# Altium footprint library Package_TO_SOT_THT.PcbLib: 236 footprints (part 11 of 15)
Each footprint in its own frame and in the unit in brackets; x right, y up, seen from the top. Pads: shape width x height; smd on the part's side, far side on the other; paste and mask are expansions set on the pad; w line width, h text height; cw(c..) or ccw(c..) is an arc to the next point about the centre after c.
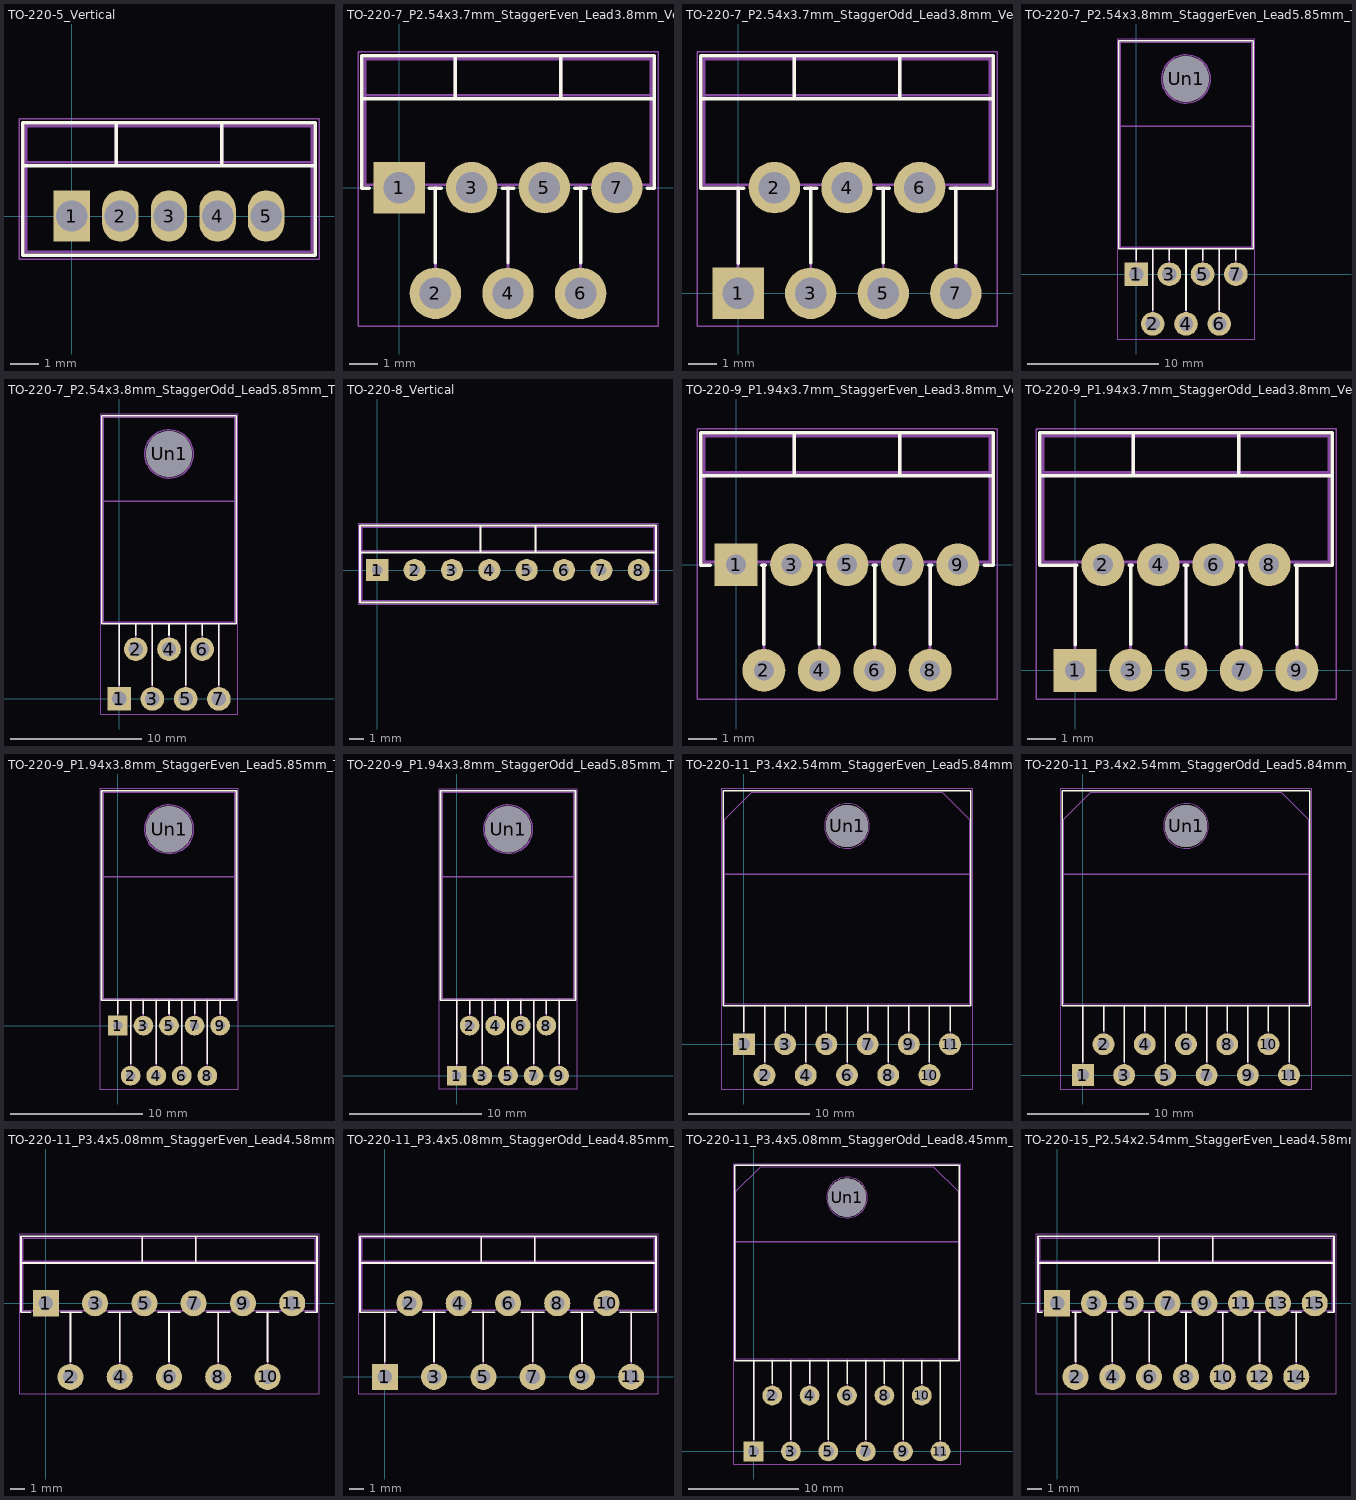
[diagram p10: the footprints below, top view; thin cyan lines are the x and y axes]

## TO-220-5_Vertical [mm]
pads (5):
  rect 1.275x1.8 hole 1.1: 1(0,0)
  rrect100% 1.275x1.8 hole 1.1: 2(1.7,0) 3(3.4,0) 4(5.1,0) 5(6.8,0)
F.SilkS:
  lines w0.12: -1.721,1.76 8.52,1.76 ; 1.55,1.76 1.55,3.27 ; 5.25,1.76 5.25,3.27 ; -1.721,-1.371 8.52,-1.371 8.52,3.27 -1.721,3.27 -1.721,-1.371
F.CrtYd:
  lines w0.05: -1.85,-1.51 8.65,-1.51 8.65,3.4 -1.85,3.4 -1.85,-1.51
F.Fab:
  lines w0.1: -1.6,1.88 8.4,1.88 ; 1.55,1.88 1.55,3.15 ; 5.25,1.88 5.25,3.15 ; -1.6,-1.25 8.4,-1.25 8.4,3.15 -1.6,3.15 -1.6,-1.25
  text "'.Designator'" at -0.647,3.43 h1

## TO-220-7_P2.54x3.7mm_StaggerEven_Lead3.8mm_Vertical [mm]
pads (7):
  rect 1.8x1.8 hole 1.1: 1(0,0)
  rrect100% 1.8x1.8 hole 1.1: 2(1.27,-3.7) 3(2.54,0) 4(3.81,-3.7) 5(5.08,0) 6(6.35,-3.7) 7(7.62,0)
F.SilkS:
  lines w0.12: -1.31,3.111 8.93,3.111 ; -1.05,-0.021 -1.31,-0.021 -1.31,4.62 8.93,4.62 8.93,-0.021 8.685,-0.021 ; 1.05,-0.021 1.475,-0.021 ; 1.27,-2.635 1.27,-0.021 ; 1.96,3.111 1.96,4.62 ; 3.605,-0.021 4.016,-0.021 ; 3.81,-2.635 3.81,-0.021 ; 5.66,3.111 5.66,4.62 ; 6.145,-0.021 6.555,-0.021 ; 6.35,-2.635 6.35,-0.021
F.CrtYd:
  lines w0.05: -1.44,-4.85 9.06,-4.85 9.06,4.75 -1.44,4.75 -1.44,-4.85
F.Fab:
  lines w0.1: -1.19,3.23 8.81,3.23 ; 0,0 0,0.1 ; 1.27,-3.7 1.27,0.1 ; 1.96,3.23 1.96,4.5 ; 2.54,0 2.54,0.1 ; 3.81,-3.7 3.81,0.1 ; 5.08,0 5.08,0.1 ; 5.66,3.23 5.66,4.5 ; 6.35,-3.7 6.35,0.1 ; 7.62,0 7.62,0.1 ; -1.19,0.1 -1.19,4.5 8.81,4.5 8.81,0.1 -1.19,0.1
  text "'.Designator'" at -0.237,4.78 h1

## TO-220-7_P2.54x3.7mm_StaggerOdd_Lead3.8mm_Vertical [mm]
pads (7):
  rect 1.8x1.8 hole 1.1: 1(0,0)
  rrect100% 1.8x1.8 hole 1.1: 2(1.27,3.7) 3(2.54,0) 4(3.81,3.7) 5(5.08,0) 6(6.35,3.7) 7(7.62,0)
F.SilkS:
  lines w0.12: -1.31,6.811 8.93,6.811 ; 0,1.049 0,3.679 ; 0.205,3.679 -1.31,3.679 -1.31,8.32 8.93,8.32 8.93,3.679 7.415,3.679 ; 1.96,6.811 1.96,8.32 ; 2.336,3.679 2.745,3.679 ; 2.54,1.065 2.54,3.679 ; 4.875,3.679 5.285,3.679 ; 5.08,1.065 5.08,3.679 ; 5.66,6.811 5.66,8.32 ; 7.62,1.065 7.62,3.679
F.CrtYd:
  lines w0.05: -1.44,-1.15 -1.44,8.45 9.06,8.45 9.06,-1.15 -1.44,-1.15
F.Fab:
  lines w0.1: -1.19,6.93 8.81,6.93 ; 0,0 0,3.8 ; 1.27,3.7 1.27,3.8 ; 1.96,6.93 1.96,8.2 ; 2.54,0 2.54,3.8 ; 3.81,3.7 3.81,3.8 ; 5.08,0 5.08,3.8 ; 5.66,6.93 5.66,8.2 ; 6.35,3.7 6.35,3.8 ; 7.62,0 7.62,3.8 ; -1.19,3.8 -1.19,8.2 8.81,8.2 8.81,3.8 -1.19,3.8
  text "'.Designator'" at -0.237,8.48 h1

## TO-220-7_P2.54x3.8mm_StaggerEven_Lead5.85mm_TabDown [mm]
pads (8):
  rect 1.8x1.8 hole 1.1: 1(0,0)
  rrect100% 1.8x1.8 hole 1.1: 2(1.27,-3.8) 3(2.54,0) 4(3.81,-3.8) 5(5.08,0) 6(6.35,-3.8) 7(7.62,0)
  rrect100% 3.5x3.5 hole 3.5: Un1(3.81,14.9)
F.SilkS:
  lines w0.12: 0,1.05 0,1.93 ; 1.27,-2.735 1.27,1.93 ; 2.54,1.066 2.54,1.93 ; 3.81,-2.735 3.81,1.93 ; 5.08,1.066 5.08,1.93 ; 6.35,-2.735 6.35,1.93 ; 7.62,1.066 7.62,1.93 ; -1.31,1.93 8.93,1.93 8.93,17.82 -1.31,17.82 -1.31,1.93
F.CrtYd:
  lines w0.05: -1.44,-4.95 9.06,-4.95 9.06,17.95 -1.44,17.95 -1.44,-4.95
F.Fab:
  circle w0.1: c3.81,14.9 r1.85
  lines w0.1: 0,0 0,2.05 ; 1.27,-3.8 1.27,2.05 ; 2.54,0 2.54,2.05 ; 3.81,-3.8 3.81,2.05 ; 5.08,0 5.08,2.05 ; 6.35,-3.8 6.35,2.05 ; 7.62,0 7.62,2.05 ; -1.19,11.3 8.81,11.3 ; -1.19,11.3 -1.19,17.7 8.81,17.7 8.81,11.3 ; -1.19,11.3 8.81,11.3 ; -1.19,11.3 -1.19,2.05 8.81,2.05 8.81,11.3
  text "'.Designator'" at -0.237,17.98 h1

## TO-220-7_P2.54x3.8mm_StaggerOdd_Lead5.85mm_TabDown [mm]
pads (8):
  rect 1.8x1.8 hole 1.1: 1(0,0)
  rrect100% 1.8x1.8 hole 1.1: 2(1.27,3.8) 3(2.54,0) 4(3.81,3.8) 5(5.08,0) 6(6.35,3.8) 7(7.62,0)
  rrect100% 3.5x3.5 hole 3.5: Un1(3.81,18.7)
F.SilkS:
  lines w0.12: 0,1.05 0,5.73 ; 1.27,4.866 1.27,5.73 ; 2.54,1.065 2.54,5.73 ; 3.81,4.866 3.81,5.73 ; 5.08,1.065 5.08,5.73 ; 6.35,4.866 6.35,5.73 ; 7.62,1.065 7.62,5.73 ; -1.31,5.73 8.93,5.73 8.93,21.62 -1.31,21.62 -1.31,5.73
F.CrtYd:
  lines w0.05: -1.44,-1.15 9.06,-1.15 9.06,21.75 -1.44,21.75 -1.44,-1.15
F.Fab:
  circle w0.1: c3.81,18.7 r1.85
  lines w0.1: 0,0 0,5.85 ; 1.27,3.8 1.27,5.85 ; 2.54,0 2.54,5.85 ; 3.81,3.8 3.81,5.85 ; 5.08,0 5.08,5.85 ; 6.35,3.8 6.35,5.85 ; 7.62,0 7.62,5.85 ; -1.19,15.1 8.81,15.1 ; -1.19,15.1 -1.19,5.85 8.81,5.85 8.81,15.1 ; -1.19,15.1 8.81,15.1 ; -1.19,15.1 -1.19,21.5 8.81,21.5 8.81,15.1
  text "'.Designator'" at -0.237,21.78 h1

## TO-220-8_Vertical [mm]
pads (8):
  rect 1.5x1.5 hole 0.7: 1(0,0)
  rrect100% 1.5x1.5 hole 0.7: 2(2.54,0) 3(5.08,0) 4(7.62,0) 5(10.16,0) 6(12.7,0) 7(15.24,0) 8(17.78,0)
F.SilkS:
  lines w0.12: -1.18,-2.211 -1.18,3.03 18.96,3.03 18.96,-2.21 -1.18,-2.21 ; -1.18,1.19 18.96,1.19 ; 7.015,1.19 7.015,3.03 ; 10.765,1.19 10.765,3.03
F.CrtYd:
  lines w0.05: -1.31,-2.34 -1.31,3.16 19.09,3.16 19.09,-2.34 -1.31,-2.34
F.Fab:
  lines w0.1: -1.06,1.31 18.84,1.31 ; 7.015,1.31 7.015,2.91 ; 10.765,1.31 10.765,2.91 ; -1.06,-2.09 18.84,-2.09 18.84,2.91 -1.06,2.91 -1.06,-2.09
  text "'.Designator'" at 4.843,-0.84 h1

## TO-220-9_P1.94x3.7mm_StaggerEven_Lead3.8mm_Vertical [mm]
pads (9):
  rect 1.5x1.5 hole 0.7: 1(0,0)
  rrect100% 1.5x1.5 hole 0.7: 2(0.97,-3.7) 3(1.94,0) 4(2.91,-3.7) 5(3.88,0) 6(4.85,-3.7) 7(5.82,0) 8(6.79,-3.7) 9(7.76,0)
F.SilkS:
  lines w0.12: -1.241,3.111 9,3.111 ; -0.9,-0.021 -1.241,-0.021 -1.241,4.62 9,4.62 9,-0.021 8.675,-0.021 ; 0.9,-0.021 1.025,-0.021 ; 0.97,-2.785 0.97,-0.021 ; 2.03,3.111 2.03,4.62 ; 2.855,-0.021 2.965,-0.021 ; 2.91,-2.785 2.91,-0.021 ; 4.795,-0.021 4.905,-0.021 ; 4.85,-2.785 4.85,-0.021 ; 5.73,3.111 5.73,4.62 ; 6.735,-0.021 6.845,-0.021 ; 6.79,-2.785 6.79,-0.021
F.CrtYd:
  lines w0.05: -1.37,-4.7 -1.37,4.75 9.13,4.75 9.13,-4.7 -1.37,-4.7
F.Fab:
  lines w0.1: -1.12,3.23 8.88,3.23 ; 0,0 0,0.1 ; 0.97,-3.7 0.97,0.1 ; 1.94,0 1.94,0.1 ; 2.03,3.23 2.03,4.5 ; 2.91,-3.7 2.91,0.1 ; 3.88,0 3.88,0.1 ; 4.85,-3.7 4.85,0.1 ; 5.73,3.23 5.73,4.5 ; 5.82,0 5.82,0.1 ; 6.79,-3.7 6.79,0.1 ; 7.76,0 7.76,0.1 ; -1.12,0.1 -1.12,4.5 8.88,4.5 8.88,0.1 -1.12,0.1
  text "'.Designator'" at -0.167,4.78 h1

## TO-220-9_P1.94x3.7mm_StaggerOdd_Lead3.8mm_Vertical [mm]
pads (9):
  rect 1.5x1.5 hole 0.7: 1(0,0)
  rrect100% 1.5x1.5 hole 0.7: 2(0.97,3.7) 3(1.94,0) 4(2.91,3.7) 5(3.88,0) 6(4.85,3.7) 7(5.82,0) 8(6.79,3.7) 9(7.76,0)
F.SilkS:
  lines w0.12: -1.241,6.811 9,6.811 ; 0,0.9 0,3.679 ; 0.055,3.679 -1.241,3.679 -1.241,8.32 9,8.32 9,3.679 7.705,3.679 ; 1.885,3.679 1.996,3.679 ; 1.94,0.915 1.94,3.679 ; 2.03,6.811 2.03,8.32 ; 3.825,3.679 3.935,3.679 ; 3.88,0.915 3.88,3.679 ; 5.73,6.811 5.73,8.32 ; 5.765,3.679 5.875,3.679 ; 5.82,0.915 5.82,3.679 ; 7.76,0.915 7.76,3.679
F.CrtYd:
  lines w0.05: -1.37,-1 9.13,-1 9.13,8.45 -1.37,8.45 -1.37,-1
F.Fab:
  lines w0.1: -1.12,6.93 8.88,6.93 ; 0,0 0,3.8 ; 0.97,3.7 0.97,3.8 ; 1.94,0 1.94,3.8 ; 2.03,6.93 2.03,8.2 ; 2.91,3.7 2.91,3.8 ; 3.88,0 3.88,3.8 ; 4.85,3.7 4.85,3.8 ; 5.73,6.93 5.73,8.2 ; 5.82,0 5.82,3.8 ; 6.79,3.7 6.79,3.8 ; 7.76,0 7.76,3.8 ; -1.12,3.8 -1.12,8.2 8.88,8.2 8.88,3.8 -1.12,3.8
  text "'.Designator'" at -0.167,8.48 h1

## TO-220-9_P1.94x3.8mm_StaggerEven_Lead5.85mm_TabDown [mm]
pads (10):
  rect 1.5x1.5 hole 0.7: 1(0,0)
  rrect100% 1.5x1.5 hole 0.7: 2(0.97,-3.8) 3(1.94,0) 4(2.91,-3.8) 5(3.88,0) 6(4.85,-3.8) 7(5.82,0) 8(6.79,-3.8) 9(7.76,0)
  rrect100% 3.5x3.5 hole 3.5: Un1(3.88,14.9)
F.SilkS:
  lines w0.12: 0,0.9 0,1.93 ; 0.97,-2.885 0.97,1.93 ; 1.94,0.916 1.94,1.93 ; 2.91,-2.885 2.91,1.93 ; 3.88,0.916 3.88,1.93 ; 4.85,-2.885 4.85,1.93 ; 5.82,0.916 5.82,1.93 ; 6.79,-2.885 6.79,1.93 ; 7.76,0.916 7.76,1.93 ; -1.241,1.93 -1.241,17.82 9,17.82 9,1.93 -1.241,1.93
F.CrtYd:
  lines w0.05: -1.37,-4.81 -1.37,17.95 9.13,17.95 9.13,-4.81 -1.37,-4.81
F.Fab:
  circle w0.1: c3.88,14.9 r1.85
  lines w0.1: 0,0 0,2.05 ; 0.97,-3.8 0.97,2.05 ; 1.94,0 1.94,2.05 ; 2.91,-3.8 2.91,2.05 ; 3.88,0 3.88,2.05 ; 4.85,-3.8 4.85,2.05 ; 5.82,0 5.82,2.05 ; 6.79,-3.8 6.79,2.05 ; 7.76,0 7.76,2.05 ; -1.12,11.3 -1.12,2.05 8.88,2.05 8.88,11.3 ; -1.12,11.3 8.88,11.3 ; -1.12,11.3 -1.12,17.7 8.88,17.7 8.88,11.3 ; -1.12,11.3 8.88,11.3
  text "'.Designator'" at -0.167,17.98 h1

## TO-220-9_P1.94x3.8mm_StaggerOdd_Lead5.85mm_TabDown [mm]
pads (10):
  rect 1.5x1.5 hole 0.7: 1(0,0)
  rrect100% 1.5x1.5 hole 0.7: 2(0.97,3.8) 3(1.94,0) 4(2.91,3.8) 5(3.88,0) 6(4.85,3.8) 7(5.82,0) 8(6.79,3.8) 9(7.76,0)
  rrect100% 3.5x3.5 hole 3.5: Un1(3.88,18.7)
F.SilkS:
  lines w0.12: 0,0.9 0,5.73 ; 0.97,4.716 0.97,5.73 ; 1.94,0.915 1.94,5.73 ; 2.91,4.716 2.91,5.73 ; 3.88,0.915 3.88,5.73 ; 4.85,4.716 4.85,5.73 ; 5.82,0.915 5.82,5.73 ; 6.79,4.716 6.79,5.73 ; 7.76,0.915 7.76,5.73 ; -1.241,5.73 9,5.73 9,21.62 -1.241,21.62 -1.241,5.73
F.CrtYd:
  lines w0.05: -1.37,-1.01 -1.37,21.75 9.13,21.75 9.13,-1.01 -1.37,-1.01
F.Fab:
  circle w0.1: c3.88,18.7 r1.85
  lines w0.1: 0,0 0,5.85 ; 0.97,3.8 0.97,5.85 ; 1.94,0 1.94,5.85 ; 2.91,3.8 2.91,5.85 ; 3.88,0 3.88,5.85 ; 4.85,3.8 4.85,5.85 ; 5.82,0 5.82,5.85 ; 6.79,3.8 6.79,5.85 ; 7.76,0 7.76,5.85 ; -1.12,15.1 -1.12,21.5 8.88,21.5 8.88,15.1 ; -1.12,15.1 -1.12,5.85 8.88,5.85 8.88,15.1 ; -1.12,15.1 8.88,15.1 ; -1.12,15.1 8.88,15.1
  text "'.Designator'" at -0.167,21.78 h1

## TO-220-11_P3.4x2.54mm_StaggerEven_Lead5.84mm_TabDown [mm]
pads (12):
  rect 1.8x1.8 hole 1: 1(0,0)
  rrect100% 1.8x1.8 hole 1: 2(1.7,-2.54) 3(3.4,0) 4(5.1,-2.54) 5(6.8,0) 6(8.5,-2.54) 7(10.2,0) 8(11.9,-2.54) 9(13.6,0) 10(15.3,-2.54) 11(17,0)
  rrect100% 3.5x3.5 hole 3.5: Un1(8.5,18)
F.SilkS:
  lines w0.12: 0,1.05 0,3.18 ; 1.7,-1.475 1.7,3.18 ; 3.4,1.066 3.4,3.18 ; 5.1,-1.475 5.1,3.18 ; 6.8,1.066 6.8,3.18 ; 8.5,-1.475 8.5,3.18 ; 10.2,1.066 10.2,3.18 ; 11.9,-1.475 11.9,3.18 ; 13.6,1.066 13.6,3.18 ; 15.3,-1.475 15.3,3.18 ; 17,1.066 17,3.18 ; -1.72,3.18 18.72,3.18 18.72,20.92 -1.72,20.92 -1.72,3.18
F.CrtYd:
  lines w0.05: -1.85,-3.69 18.85,-3.69 18.85,21.05 -1.85,21.05 -1.85,-3.69
F.Fab:
  circle w0.1: c8.5,18 r1.85
  lines w0.1: 0,0 0,3.3 ; 1.7,-2.54 1.7,3.3 ; 3.4,0 3.4,3.3 ; 5.1,-2.54 5.1,3.3 ; 6.8,0 6.8,3.3 ; 8.5,-2.54 8.5,3.3 ; 10.2,0 10.2,3.3 ; 11.9,-2.54 11.9,3.3 ; 13.6,0 13.6,3.3 ; 15.3,-2.54 15.3,3.3 ; 17,0 17,3.3 ; -1.6,14 18.6,14 ; -1.6,14 -1.6,18.55 0.651,20.8 16.351,20.8 18.6,18.55 18.6,14 ; -1.6,14 -1.6,3.3 18.6,3.3 18.6,14 ; -1.6,14 18.6,14
  text "'.Designator'" at 4.453,21.08 h1

## TO-220-11_P3.4x2.54mm_StaggerOdd_Lead5.84mm_TabDown [mm]
pads (12):
  rect 1.8x1.8 hole 1: 1(0,0)
  rrect100% 1.8x1.8 hole 1: 2(1.7,2.54) 3(3.4,0) 4(5.1,2.54) 5(6.8,0) 6(8.5,2.54) 7(10.2,0) 8(11.9,2.54) 9(13.6,0) 10(15.3,2.54) 11(17,0)
  rrect100% 3.5x3.5 hole 3.5: Un1(8.5,20.54)
F.SilkS:
  lines w0.12: 0,1.05 0,5.72 ; 1.7,3.606 1.7,5.72 ; 3.4,1.065 3.4,5.72 ; 5.1,3.606 5.1,5.72 ; 6.8,1.065 6.8,5.72 ; 8.5,3.606 8.5,5.72 ; 10.2,1.065 10.2,5.72 ; 11.9,3.606 11.9,5.72 ; 13.6,1.065 13.6,5.72 ; 15.3,3.606 15.3,5.72 ; 17,1.065 17,5.72 ; -1.72,5.72 -1.72,23.46 18.72,23.46 18.72,5.72 -1.72,5.72
F.CrtYd:
  lines w0.05: -1.85,-1.15 -1.85,23.59 18.85,23.59 18.85,-1.15 -1.85,-1.15
F.Fab:
  circle w0.1: c8.5,20.54 r1.85
  lines w0.1: 0,0 0,5.84 ; 1.7,2.54 1.7,5.84 ; 3.4,0 3.4,5.84 ; 5.1,2.54 5.1,5.84 ; 6.8,0 6.8,5.84 ; 8.5,2.54 8.5,5.84 ; 10.2,0 10.2,5.84 ; 11.9,2.54 11.9,5.84 ; 13.6,0 13.6,5.84 ; 15.3,2.54 15.3,5.84 ; 17,0 17,5.84 ; -1.6,16.54 18.6,16.54 ; -1.6,16.54 18.6,16.54 ; -1.6,16.54 -1.6,5.84 18.6,5.84 18.6,16.54 ; -1.6,16.54 -1.6,21.09 0.651,23.34 16.351,23.34 18.6,21.09 18.6,16.54
  text "'.Designator'" at 4.453,23.62 h1

## TO-220-11_P3.4x5.08mm_StaggerEven_Lead4.58mm_Vertical [mm]
pads (11):
  rect 1.8x1.8 hole 1: 1(0,0)
  rrect100% 1.8x1.8 hole 1: 2(1.7,-5.08) 3(3.4,0) 4(5.1,-5.08) 5(6.8,0) 6(8.5,-5.08) 7(10.2,0) 8(11.9,-5.08) 9(13.6,0) 10(15.3,-5.08) 11(17,0)
F.SilkS:
  lines w0.12: -1.72,2.78 18.72,2.78 ; -1.05,-0.621 -1.72,-0.621 -1.72,4.62 18.72,4.62 18.72,-0.621 17.925,-0.621 ; 1.05,-0.621 2.476,-0.621 ; 1.7,-4.015 1.7,-0.621 ; 4.325,-0.621 5.876,-0.621 ; 5.1,-4.015 5.1,-0.621 ; 6.65,2.78 6.65,4.62 ; 7.725,-0.621 9.276,-0.621 ; 8.5,-4.015 8.5,-0.621 ; 10.35,2.78 10.35,4.62 ; 11.125,-0.621 12.676,-0.621 ; 11.9,-4.015 11.9,-0.621 ; 14.525,-0.621 16.076,-0.621 ; 15.3,-4.015 15.3,-0.621
F.CrtYd:
  lines w0.05: -1.85,-6.23 18.85,-6.23 18.85,4.75 -1.85,4.75 -1.85,-6.23
F.Fab:
  lines w0.1: -1.6,2.9 18.6,2.9 ; 1.7,-5.08 1.7,-0.5 ; 5.1,-5.08 5.1,-0.5 ; 6.65,2.9 6.65,4.5 ; 8.5,-5.08 8.5,-0.5 ; 10.35,2.9 10.35,4.5 ; 11.9,-5.08 11.9,-0.5 ; 15.3,-5.08 15.3,-0.5 ; -1.6,-0.5 18.6,-0.5 18.6,4.5 -1.6,4.5 -1.6,-0.5
  text "'.Designator'" at 4.453,4.78 h1

## TO-220-11_P3.4x5.08mm_StaggerOdd_Lead4.85mm_Vertical [mm]
pads (11):
  rect 1.8x1.8 hole 1: 1(0,0)
  rrect100% 1.8x1.8 hole 1: 2(1.7,5.08) 3(3.4,0) 4(5.1,5.08) 5(6.8,0) 6(8.5,5.08) 7(10.2,0) 8(11.9,5.08) 9(13.6,0) 10(15.3,5.08) 11(17,0)
F.SilkS:
  lines w0.12: -1.72,7.86 18.72,7.86 ; 0,1.05 0,4.459 ; 0.776,4.459 -1.72,4.459 -1.72,9.7 18.72,9.7 18.72,4.459 16.225,4.459 ; 2.625,4.459 4.176,4.459 ; 3.4,1.065 3.4,4.459 ; 6.025,4.459 7.576,4.459 ; 6.65,7.86 6.65,9.7 ; 6.8,1.065 6.8,4.459 ; 9.425,4.459 10.976,4.459 ; 10.2,1.065 10.2,4.459 ; 10.35,7.86 10.35,9.7 ; 12.825,4.459 14.376,4.459 ; 13.6,1.065 13.6,4.459 ; 17,1.065 17,4.459
F.CrtYd:
  lines w0.05: -1.85,-1.16 18.85,-1.16 18.85,9.83 -1.85,9.83 -1.85,-1.16
F.Fab:
  lines w0.1: -1.6,7.98 18.6,7.98 ; 0,0 0,4.58 ; 3.4,0 3.4,4.58 ; 6.65,7.98 6.65,9.58 ; 6.8,0 6.8,4.58 ; 10.2,0 10.2,4.58 ; 10.35,7.98 10.35,9.58 ; 13.6,0 13.6,4.58 ; 17,0 17,4.58 ; -1.6,4.58 -1.6,9.58 18.6,9.58 18.6,4.58 -1.6,4.58
  text "'.Designator'" at 4.453,9.86 h1

## TO-220-11_P3.4x5.08mm_StaggerOdd_Lead8.45mm_TabDown [mm]
pads (12):
  rect 1.8x1.8 hole 1: 1(0,0)
  rrect100% 1.8x1.8 hole 1: 2(1.7,5.08) 3(3.4,0) 4(5.1,5.08) 5(6.8,0) 6(8.5,5.08) 7(10.2,0) 8(11.9,5.08) 9(13.6,0) 10(15.3,5.08) 11(17,0)
  rrect100% 3.5x3.5 hole 3.5: Un1(8.5,23.08)
F.SilkS:
  lines w0.12: 0,1.05 0,8.255 ; 1.7,6.146 1.7,8.26 ; 3.4,1.065 3.4,8.255 ; 5.1,6.146 5.1,8.26 ; 6.8,1.065 6.8,8.255 ; 8.5,6.146 8.5,8.26 ; 10.2,1.065 10.2,8.255 ; 11.9,6.146 11.9,8.26 ; 13.6,1.065 13.6,8.255 ; 15.3,6.146 15.3,8.26 ; 17,1.065 17,8.255 ; -1.72,8.26 18.72,8.26 18.72,26 -1.72,26 -1.72,8.26
F.CrtYd:
  lines w0.05: -1.85,-1.15 18.85,-1.15 18.85,26.13 -1.85,26.13 -1.85,-1.15
F.Fab:
  circle w0.1: c8.5,23.08 r1.85
  lines w0.1: 0,0 0,8.382 ; 1.7,5.08 1.7,8.38 ; 3.4,0 3.4,8.382 ; 5.1,5.08 5.1,8.38 ; 6.8,0 6.8,8.382 ; 8.5,5.08 8.5,8.38 ; 10.2,0 10.2,8.382 ; 11.9,5.08 11.9,8.38 ; 13.6,0 13.6,8.382 ; 15.3,5.08 15.3,8.38 ; 17,0 17,8.382 ; -1.6,19.08 -1.6,8.38 18.6,8.38 18.6,19.08 ; -1.6,19.08 -1.6,23.63 0.651,25.88 16.351,25.88 18.6,23.63 18.6,19.08 ; -1.6,19.08 18.6,19.08 ; -1.6,19.08 18.6,19.08
  text "'.Designator'" at 4.453,26.16 h1

## TO-220-15_P2.54x2.54mm_StaggerEven_Lead4.58mm_Vertical [mm]
pads (15):
  rect 1.8x1.8 hole 1: 1(0,0)
  rrect100% 1.8x1.8 hole 1: 2(1.27,-5.08) 3(2.54,0) 4(3.81,-5.08) 5(5.08,0) 6(6.35,-5.08) 7(7.62,0) 8(8.89,-5.08) 9(10.16,0) 10(11.43,-5.08) 11(12.7,0) 12(13.97,-5.08) 13(15.24,0) 14(16.51,-5.08) 15(17.78,0)
F.SilkS:
  lines w0.12: -1.33,2.78 19.11,2.78 ; -1.05,-0.621 -1.33,-0.621 -1.33,4.62 19.11,4.62 19.11,-0.621 18.705,-0.621 ; 1.05,-0.621 1.616,-0.621 ; 1.27,-4.015 1.27,-0.621 ; 3.465,-0.621 4.156,-0.621 ; 3.81,-4.015 3.81,-0.621 ; 6.005,-0.621 6.696,-0.621 ; 6.35,-4.015 6.35,-0.621 ; 7.041,2.78 7.041,4.62 ; 8.545,-0.621 9.236,-0.621 ; 8.89,-4.015 8.89,-0.621 ; 10.74,2.78 10.74,4.62 ; 11.085,-0.621 11.776,-0.621 ; 11.43,-4.015 11.43,-0.621 ; 13.625,-0.621 14.316,-0.621 ; 13.97,-4.015 13.97,-0.621 ; 16.165,-0.621 16.856,-0.621 ; 16.51,-4.015 16.51,-0.621
F.CrtYd:
  lines w0.05: -1.46,-6.23 19.25,-6.23 19.25,4.75 -1.46,4.75 -1.46,-6.23
F.Fab:
  lines w0.1: -1.21,2.9 18.99,2.9 ; 1.27,-5.08 1.27,-0.5 ; 3.81,-5.08 3.81,-0.5 ; 6.35,-5.08 6.35,-0.5 ; 7.04,2.9 7.04,4.5 ; 8.89,-5.08 8.89,-0.5 ; 10.74,2.9 10.74,4.5 ; 11.43,-5.08 11.43,-0.5 ; 13.97,-5.08 13.97,-0.5 ; 16.51,-5.08 16.51,-0.5 ; -1.21,-0.5 18.99,-0.5 18.99,4.5 -1.21,4.5 -1.21,-0.5
  text "'.Designator'" at 4.843,4.78 h1